# Altium footprint library Quartzes.PcbLib: 13 footprints
Each footprint in its own frame and in the unit in brackets; x right, y up, seen from the top. Pads: shape width x height; smd on the part's side, far side on the other; paste and mask are expansions set on the pad; w line width, h text height; cw(c..) or ccw(c..) is an arc to the next point about the centre after c.
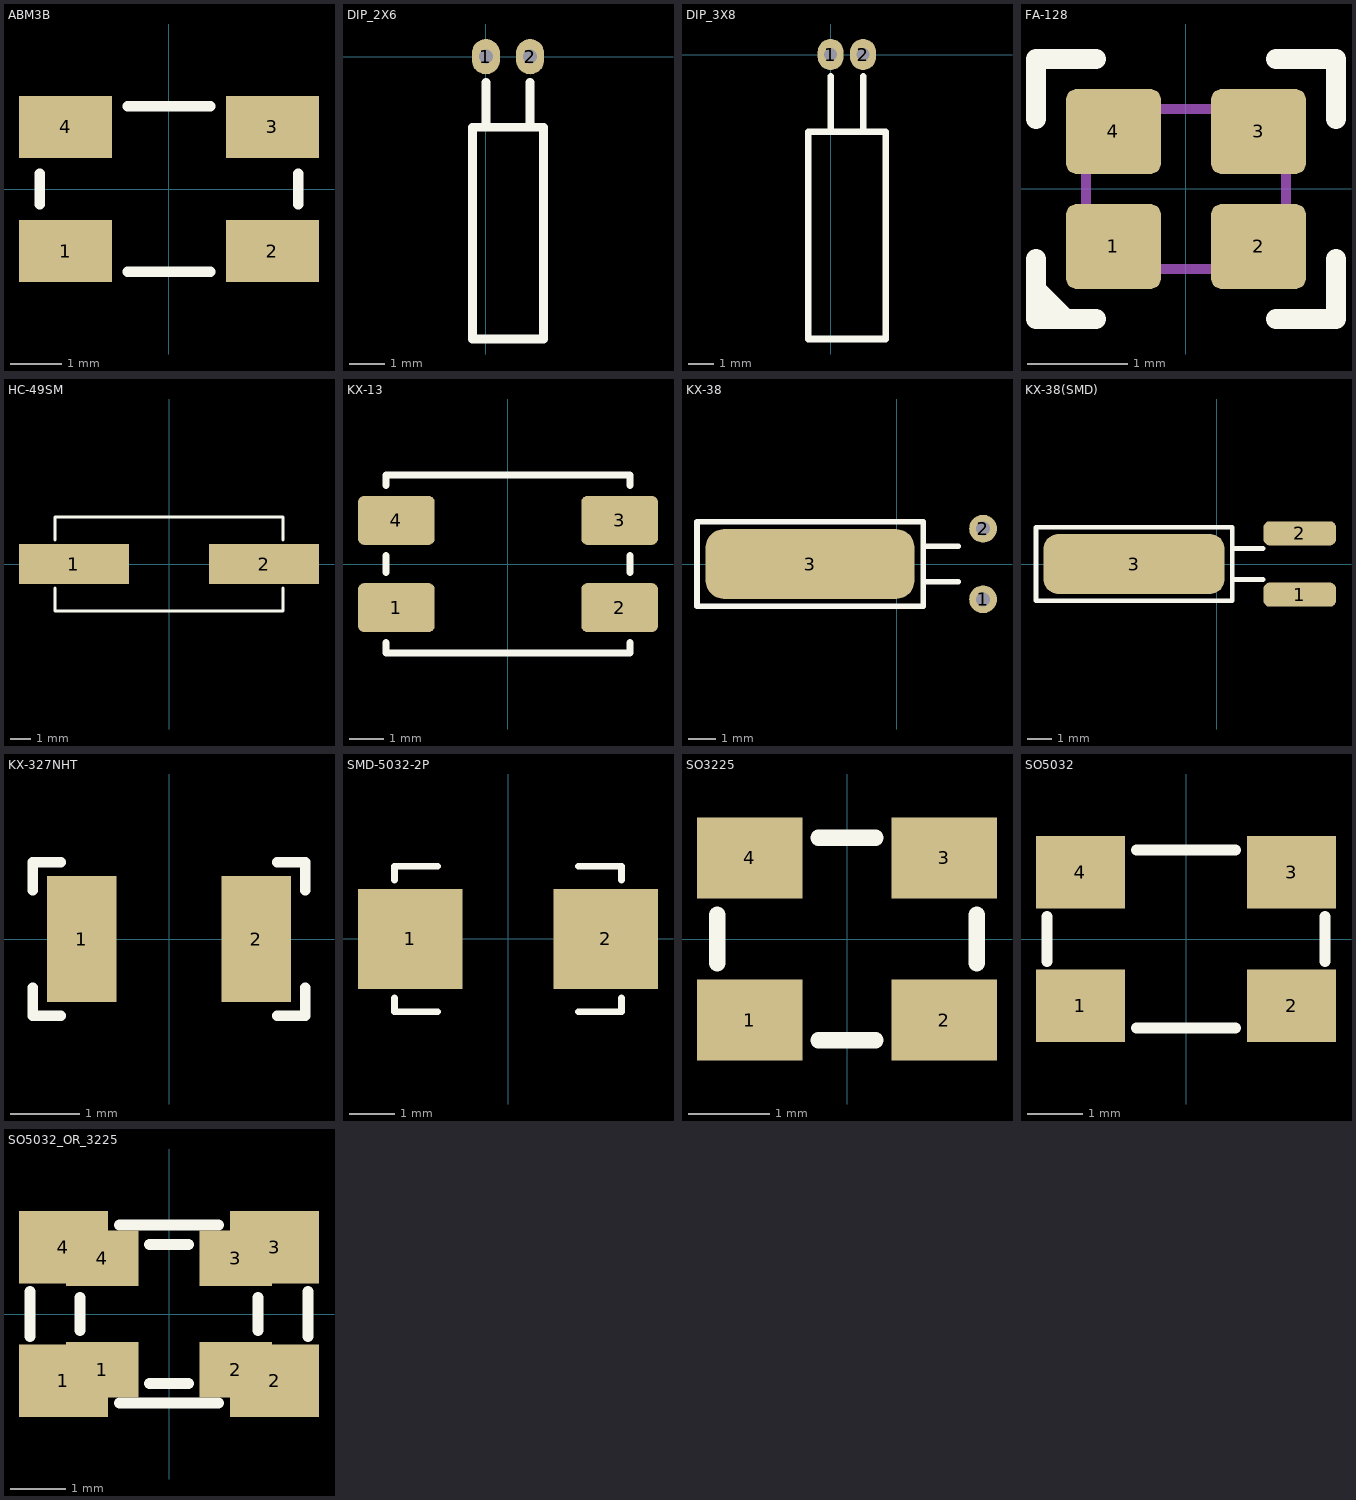
[diagram p0: the footprints below, top view; thin cyan lines are the x and y axes]

## ABM3B [mm] "Площадка для кварцевого резонатора Abracon, монтаж на поверхность 4 конт. Корпус 5х3.2мм."
height 1.1
pads (4):
  rect 1.8x1.2 smd: 1(-2,-1.2) 2(2,-1.2) 3(2,1.2) 4(-2,1.2)
Top Overlay:
  lines w0.2: -2.5,-0.3 -2.5,0.3 ; -0.8,-1.6 0.8,-1.6 ; -0.8,1.6 0.8,1.6 ; 2.5,-0.3 2.5,0.3
3D body: height 1.1, standoff 0, extent -2.4,-1.5 2.4,1.5

## DIP_2X6 [mm]
pads (2):
  oval 0.8x1 hole 0.4: 1(0,0) 2(1.25,0)
Top Overlay:
  lines w0.254: 0,-1.975 0,-0.725 ; 1.25,-2 1.25,-0.725 ; -0.375,-8 -0.375,-2 1.625,-2 1.625,-8 -0.375,-8

## DIP_3X8 [mm]
pads (2):
  oval 1x1.2 hole 0.5: 1(-0.006,0.006) 2(1.244,0.006)
Top Overlay:
  lines w0.254: 0,-2.95 0,-0.825 ; 1.25,-2.95 1.25,-0.825 ; -0.875,-10.975 2.125,-10.975 2.125,-2.975 -0.875,-2.975 -0.875,-10.975

## FA-128 [mm] "Quarz Crystal"
height 0.5
pads (4):
  rrect25% 0.95x0.85 smd: 1(-0.725,-0.575) 2(0.725,-0.575) 3(0.725,0.575) 4(-0.725,0.575)
Top Overlay:
  lines w0.2: -1.5,-1 -1.2,-1.3 ; -1.5,-0.7 -1.5,-1.3 -0.9,-1.3 ; -1.5,0.7 -1.5,1.3 -0.9,1.3 ; 0.9,-1.3 1.5,-1.3 1.5,-0.7 ; 0.9,1.3 1.5,1.3 1.5,0.7
Mechanical 13:
  lines w0.1: -1,-0.8 -1,0.8 1,0.8 1,-0.8 -1,-0.8
3D body: height 0.5, standoff 0, extent -1,-0.8 1,0.8

## HC-49SM [mm] "Quartz"
height 4.3
pads (2):
  rect 5.5x2 smd: 1(-4.75,0) 2(4.75,0)
Top Overlay:
  lines w0.15: -5.7,-1.2 -5.7,-2.35 5.7,-2.35 5.7,-1.2 ; -5.7,1.2 -5.7,2.35 5.7,2.35 5.7,1.2
3D body "HC-49SM.stp": height 4, standoff 0, extent -6.7,-2.4 6.7,2.4

## KX-13 [mm] "Площадка для кварцевого резонатора Geyer KX-13, монтаж на поверхность 4 конт. Корпус 7х5мм."
height 1.3
pads (4):
  rrect25% 2.2x1.4 smd: 1(-3.2,-1.25) 2(3.2,-1.25) 3(3.2,1.25) 4(-3.2,1.25)
Top Overlay:
  lines w0.2: -3.5,-2.25 -3.5,-2.55 3.5,-2.55 3.5,-2.25 ; -3.5,-0.25 -3.5,0.25 ; -3.5,2.25 -3.5,2.55 3.5,2.55 3.5,2.25 ; 3.5,-0.25 3.5,0.25
3D body "GeyerElectronics_KX13.STEP": height 1.31, standoff 0, extent -3.5,-2.5 3.5,2.5

## KX-38 [mm] "Площадка для кварцевого резонатора типа 3х8мм"
height 3
pads (3):
  round 1 hole 0.5: 1(3.111,-1.27) 2(3.111,1.27)
  rrect50% 7.5x2.5 smd: 3(-3.111,0)
Top Overlay:
  lines w0.2: 0.953,-0.635 2.222,-0.635 ; 0.953,0.635 2.222,0.635 ; -7.175,-1.524 -7.175,1.524 0.953,1.524 0.953,-1.524 -7.175,-1.524
3D body "KX-38.STEP": height 3, standoff 0, extent -6.916,-1.5 2.984,1.5

## KX-38(SMD) [mm] "Площадка для кварцевого резонатора типа 3х8мм, монтаж на поверхность"
height 3
pads (3):
  rrect50% 3x1 smd: 1(3.429,-1.27) 2(3.429,1.27)
  rrect50% 7.5x2.5 smd: 3(-3.429,0)
Top Overlay:
  lines w0.2: 0.635,-0.635 1.905,-0.635 ; 0.635,0.635 1.905,0.635 ; -7.493,-1.524 0.635,-1.524 0.635,1.524 -7.493,1.524 -7.493,-1.524
3D body "KX-38.STEP": height 3, standoff 0, extent -7.233,-1.5 2.667,1.5

## KX-327NHT [mm] "KX-327NHT"
height 0.8
pads (2):
  rect 1x1.8 smd: 1(-1.25,0) 2(1.25,0)
Top Overlay:
  lines w0.15: -1.95,-0.7 -1.95,-1.1 -1.55,-1.1 ; -1.95,0.7 -1.95,1.1 -1.55,1.1 ; 1.55,-1.1 1.95,-1.1 1.95,-0.7 ; 1.55,1.1 1.95,1.1 1.95,0.7
3D body: height 1, standoff 0, extent -1.85,-1 1.85,1

## SMD-5032-2P [mm] "SMD-5032-2P"
height 0.9
pads (2):
  rect 2.3x2.2 smd: 1(-2.15,0) 2(2.15,0)
Top Overlay:
  lines w0.15: -2.5,-1.3 -2.5,-1.6 -1.55,-1.6 ; -2.5,1.3 -2.5,1.6 -1.55,1.6 ; 1.55,-1.6 2.5,-1.6 2.5,-1.3 ; 1.55,1.6 2.5,1.6 2.5,1.3
3D body: height 1, standoff 0, extent -2.5,-1.6 2.5,1.6

## SO3225 [mm] "Площадка для кварцевого резонатора Abracon, монтаж на поверхность 4 конт. Корпус 3.2х2.5мм."
height 1.1
pads (4):
  rect 1.3x1 smd: 1(-1.2,-1) 2(1.2,-1) 3(1.2,1) 4(-1.2,1)
Top Overlay:
  lines w0.2: -1.6,-0.3 -1.6,0.3 ; -0.35,-1.25 0.35,-1.25 ; -0.35,1.25 0.35,1.25 ; 1.6,-0.3 1.6,0.3
3D body "OSC3225.STEP": height 1, standoff 0, extent -1.6,-1.264 1.6,1.264

## SO5032 [mm] "Площадка для кварцевого резонатора Abracon, монтаж на поверхность 4 конт. Корпус 5х3.2мм."
height 1.2
pads (4):
  rect 1.6x1.3 smd: 1(-1.9,-1.2) 2(1.9,-1.2) 3(1.9,1.2) 4(-1.9,1.2)
Top Overlay:
  lines w0.2: -2.5,-0.4 -2.5,0.4 ; -0.889,-1.6 0.889,-1.6 ; -0.889,1.6 0.889,1.6 ; 2.5,-0.4 2.5,0.4
3D body "OSC5032.STEP": height 1.2, standoff 0, extent -2.5,-1.6 2.5,1.6

## SO5032_OR_3225 [mm] "Площадка для кварцевого резонатора Abracon, монтаж на поверхность 4 конт. Корпус 5х3.2мм."
height 1.2
pads (8):
  rect 1.6x1.3 smd: 1(-1.9,-1.2) 2(1.9,-1.2) 3(1.9,1.2) 4(-1.9,1.2)
  rect 1.3x1 smd: 1(-1.2,-1) 2(1.2,-1) 3(1.2,1) 4(-1.2,1)
Top Overlay:
  lines w0.2: -2.5,-0.4 -2.5,0.4 ; -1.6,-0.3 -1.6,0.3 ; -0.889,-1.6 0.889,-1.6 ; -0.889,1.6 0.889,1.6 ; -0.35,-1.25 0.35,-1.25 ; -0.35,1.25 0.35,1.25 ; 1.6,-0.3 1.6,0.3 ; 2.5,-0.4 2.5,0.4
3D body "OSC5032.STEP": height 1.2, standoff 0, extent -2.5,-1.6 2.5,1.6